# EAGLE library part TCA9546A (library minty)
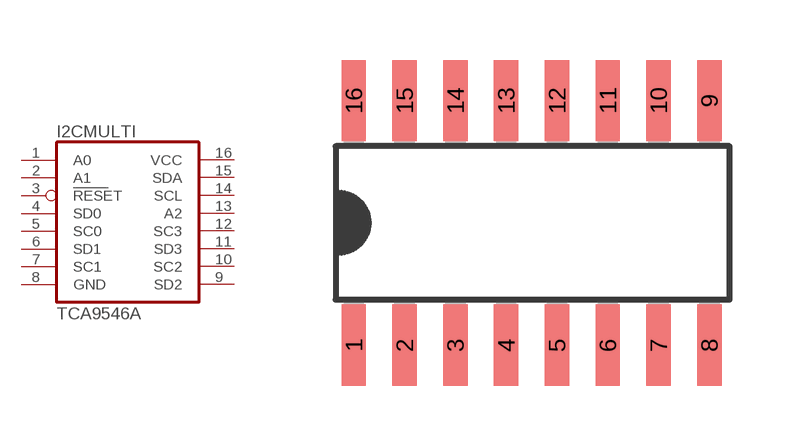
[diagram p1: symbol with the pads of SOIC16_LONGPAD; footprint SOIC16_LONGPAD]

Designator prefix I2CMULTI

## TCA9546A  [SOIC16_LONGPAD]
1  A0  in
2  A1  in
3  RESET  in
4  SD0
5  SC0  out
6  SD1
7  SC1  out
8  GND  pwr
9  SD2
10  SC2  out
11  SD3
12  SC3  out
13  A2  in
14  SCL  in
15  SDA
16  VCC  pwr

## Footprint SOIC16_LONGPAD (pad centres in mm)
small outline integrated circuit SOIC-16 long pads (0.024 x 0.08 in)
smd 0.61 x 2.032: 1 -4.445,-3.251; 2 -3.175,-3.251; 3 -1.905,-3.251; 4 -0.635,-3.251; 5 0.635,-3.251; 6 1.905,-3.251; 7 3.175,-3.251; 8 4.445,-3.251; 9 4.445,2.87; 10 3.175,2.87; 11 1.905,2.87; 12 0.635,2.87; 13 -0.635,2.87; 14 -1.905,2.87; 15 -3.175,2.87; 16 -4.445,2.87